# Altium footprint library SCH16TK011.PcbLib: 1 footprints
Each footprint in its own frame and in the unit in brackets; x right, y up, seen from the top. Pads: shape width x height; smd on the part's side, far side on the other; paste and mask are expansions set on the pad; w line width, h text height; cw(c..) or ccw(c..) is an arc to the next point about the centre after c.
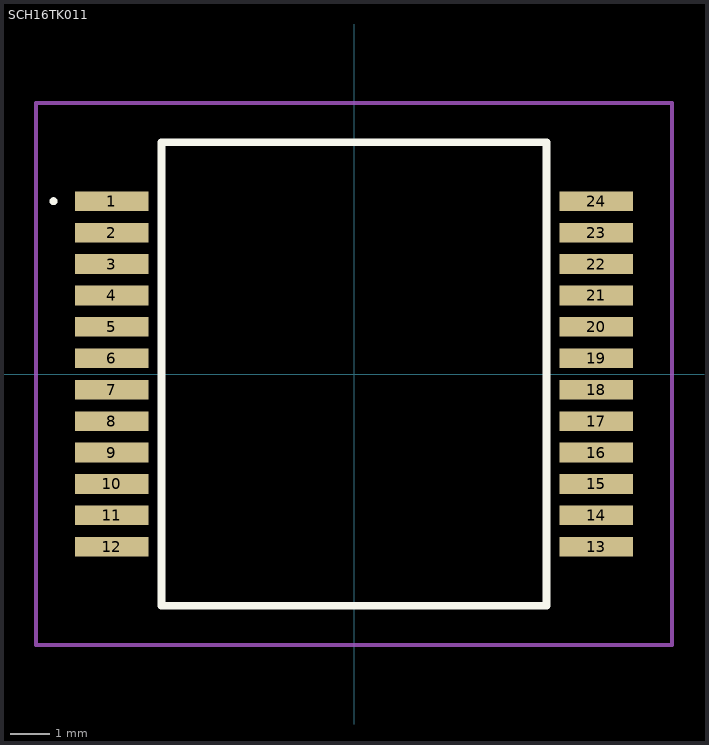
[diagram p0: the footprint, top view; thin cyan lines are the x and y axes]

## SCH16TK011 [mm]
pads (24):
  rect 1.87x0.5 smd: 1(-6.165,4.4) 2(-6.165,3.6) 3(-6.165,2.8) 4(-6.165,2) 5(-6.165,1.2) 6(-6.165,0.4) 7(-6.165,-0.4) 8(-6.165,-1.2) 9(-6.165,-2) 10(-6.165,-2.8) 11(-6.165,-3.6) 12(-6.165,-4.4) 13(6.165,-4.4) 14(6.165,-3.6) 15(6.165,-2.8) 16(6.165,-2) 17(6.165,-1.2) 18(6.165,-0.4) 19(6.165,0.4) 20(6.165,1.2) 21(6.165,2) 22(6.165,2.8) 23(6.165,3.6) 24(6.165,4.4)
Top Overlay:
  lines w0.1: -7.7,4.4 cw(c-7.65,4.4) -7.6,4.4 ; -7.7,4.4 -7.7,4.4 ; -7.7,4.4 ccw(c-7.65,4.4) -7.6,4.4 ; -7.6,4.4 -7.6,4.4
  lines w0.2: -4.9,-5.9 4.9,-5.9 4.9,5.9 -4.9,5.9 -4.9,-5.9
Mechanical 15:
  lines w0.1: -4.9,-5.9 4.9,-5.9 4.9,5.9 -4.9,5.9 -4.9,-5.9
Mechanical 20:
  lines w0.1: -8.1,-6.9 8.1,-6.9 8.1,6.9 -8.1,6.9 -8.1,-6.9